# Altium schematic symbol library TC654.SchLib: 1 symbol
Pins are listed as number, name and electrical type; pins without a type are passive.

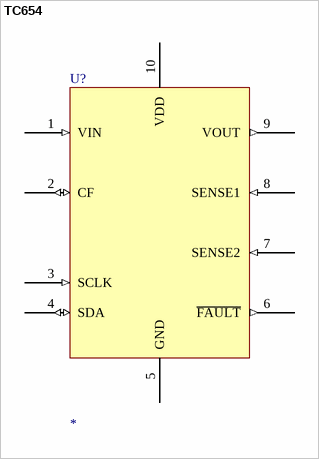
[diagram p0: symbol TC654]

## TC654
designator U?
pins: 1 VIN (in), 2 CF (io), 3 SCLK (in), 4 SDA (io), 5 GND (power), 6 ~{FAULT} (out), 7 SENSE2 (in), 8 SENSE1 (in), 9 VOUT (out), 10 VDD (power)